# EAGLE library part SI4688 (library Radio Empfänger - DAB+ SI4688-A10)
Name des Bauteiles: -->SI4688 DAB+ Daten:n Worldwide FM band support (76–108 MHz) n Advanced RDS/RBDS decoder n FM HD Radio™ support n Patent-pending fast-HD station detection n Integrated HD blend n DAB, DAB+ Band III support (168– 240 MHz) n Supports WorldDMB Receiver Profiles 1 and 2 n OFDM channel demodulator l Simultaneous decoding of up to 4 service components l Seamless dynamic multiplex reconfiguration n Integrated SRAM supporting time and frequency de-interleaving n Advanced seek functionality Advanced audio DSP processing n Complete on-chip source decode n I2S digital audio out with ASRC n Integrated 97 dB stereo audio DAC n Concurrent I2S / L-R stereo audio out n Full range of analog and digital signal quality metrics n Fully-integrated VCO / PLL / synthesizer n Fully-integrated advanced AGC and alignment n SPI, I2C control interfaces n FM sensitivity = 0.7 μV n HD sensitivity = –91 dBm n DAB sensitivity = –101 dBm n WLCSP and QFN packages Artikelnummer:#keine feste Artikelnummer vorhanden / Atikel nicht lagermäßig vorhanden! Datenblatt:www.alldatasheet.com __________________________________________ generated by Eagle Description Tool am : 10.04.2014 10:07:29 erstellt von: hm
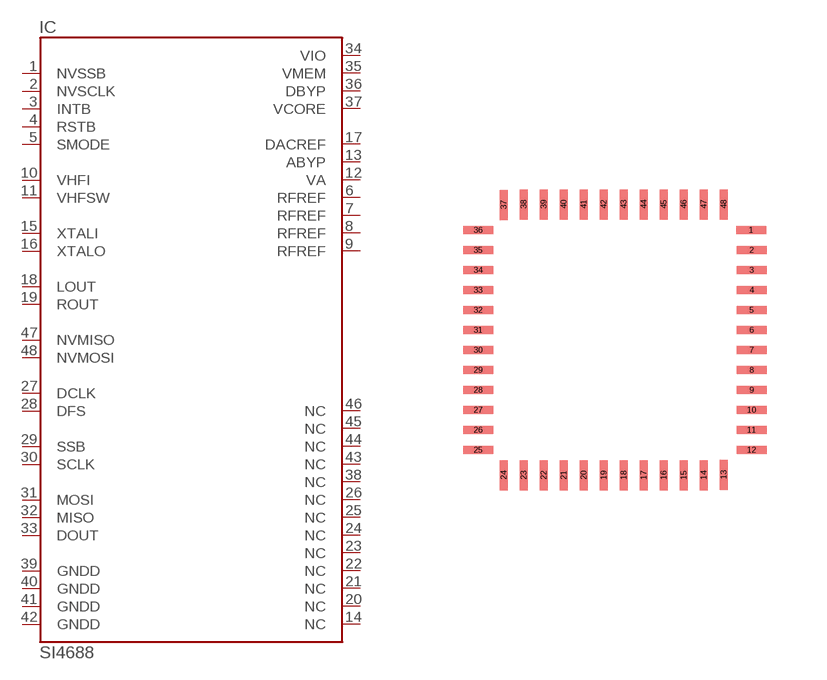
[diagram p0: symbol with the pads of SI4688-A10-GM; footprint SI4688-A10-GM]

Designator prefix IC

## SI4688SI4699-A10  [SI4688-A10-GM]
1  NVSSB
2  NVSCLK
3  INTB
4  RSTB
5  SMODE
6  RFREF
7  RFREF
8  RFREF
9  RFREF
10  VHFI
11  VHFSW
12  VA
13  ABYP
14  NC
15  XTALI
16  XTALO
17  DACREF
18  LOUT
19  ROUT
20  NC
21  NC
22  NC
23  NC
24  NC
25  NC
26  NC
27  DCLK
28  DFS
29  SSB
30  SCLK
31  MOSI
32  MISO
33  DOUT
34  VIO
35  VMEM
36  DBYP
37  VCORE
38  NC
39  GNDD
40  GNDD
41  GNDD
42  GNDD
43  NC
44  NC
45  NC
46  NC
47  NVMISO
48  NVMOSI

## Footprint SI4688-A10-GM (pad centres in mm)
smd 0.75 x 0.2: 1 3.5,2.875; 2 3.513,2.375; 3 3.513,1.875; 4 3.513,1.375; 5 3.513,0.875; 6 3.513,0.375; 7 3.513,-0.125; 8 3.513,-0.625; 9 3.513,-1.125; 10 3.513,-1.625; 11 3.513,-2.125; 12 3.513,-2.625; 25 -3.325,-2.625; 26 -3.325,-2.125; 27 -3.325,-1.625; 28 -3.325,-1.125; 29 -3.325,-0.625; 30 -3.325,-0.125; 31 -3.325,0.375; 32 -3.325,0.875; 33 -3.325,1.375; 34 -3.325,1.875; 35 -3.325,2.375; 36 -3.325,2.875
smd 0.2 x 0.75: 13 2.812,-3.25; 14 2.312,-3.263; 15 1.812,-3.263; 16 1.312,-3.263; 17 0.812,-3.263; 18 0.312,-3.263; 19 -0.188,-3.263; 20 -0.688,-3.263; 21 -1.188,-3.263; 22 -1.688,-3.263; 23 -2.188,-3.263; 24 -2.688,-3.263; 37 -2.688,3.5; 38 -2.188,3.513; 39 -1.688,3.513; 40 -1.188,3.513; 41 -0.688,3.513; 42 -0.188,3.513; 43 0.312,3.513; 44 0.812,3.513; 45 1.312,3.513; 46 1.812,3.513; 47 2.312,3.513; 48 2.812,3.513